# Altium schematic symbol library Inductors.SchLib: 12 symbols
Pins are listed as number, name and electrical type; pins without a type are passive.

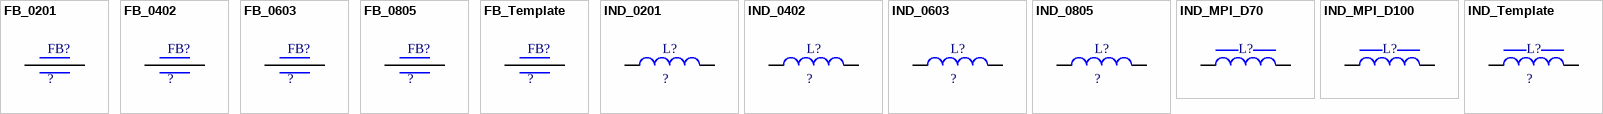
[diagram p0: symbols FB_0201 to IND_Template]

## FB_0201
designator FB?, comment ?
0201 Ferrite Beads ROHS; Value: ?; JLCPCB Part: ?; LCSC Part: ?; Mfr. Part: ?; DC Resistance (DCR) (Max): ?; Current Rating (Max): ?
footprint FB_0201
pins: 1, 2

## FB_0402
designator FB?, comment ?
0402 Ferrite Beads ROHS; Value: ?; JLCPCB Part: ?; LCSC Part: ?; Mfr. Part: ?; DC Resistance (DCR) (Max): ?; Current Rating (Max): ?
footprint FB_0402
pins: 1, 2

## FB_0603
designator FB?, comment ?
0603 Ferrite Beads ROHS; Value: ?; JLCPCB Part: ?; LCSC Part: ?; Mfr. Part: ?; DC Resistance (DCR) (Max): ?; Current Rating (Max): ?
footprint FB_0603
pins: 1, 2

## FB_0805
designator FB?, comment ?
0805 Ferrite Beads ROHS; Value: ?; JLCPCB Part: ?; LCSC Part: ?; Mfr. Part: ?; DC Resistance (DCR) (Max): ?; Current Rating (Max): ?
footprint FB_0805
pins: 1, 2

## FB_Template
designator FB?, comment ?
Where is the description?; Value: ?; JLCPCB Part: ?; LCSC Part: ?; Mfr. Part: ?; DC Resistance (DCR) (Max): ?; Current Rating (Max): ?
pins: 1, 2

## IND_0201
designator L?, comment ?
0201 Inductors ROHS; Value: ?; JLCPCB Part: ?; LCSC Part: ?; Mfr. Part: ?; Current Rating: ?
footprint IND_0201
pins: 1, 2

## IND_0402
designator L?, comment ?
0402 Inductors ROHS; Value: ?; JLCPCB Part: ?; LCSC Part: ?; Mfr. Part: ?; Current Rating: ?
footprint IND_0402
pins: 1, 2

## IND_0603
designator L?, comment ?
0603 Inductors ROHS; Value: ?; JLCPCB Part: ?; LCSC Part: ?; Mfr. Part: ?; Current Rating: ?
footprint IND_0603
pins: 1, 2

## IND_0805
designator L?, comment ?
0805 Inductors ROHS; Value: ?; JLCPCB Part: ?; LCSC Part: ?; Mfr. Part: ?; Current Rating: ?
footprint IND_0805
pins: 1, 2

## IND_MPI_D70
designator L?
Molding Power Inductor (MPI) 6.6x7.3mm; JLCPCB Part: ?; LCSC Part: ?; Value: ?; Mrf . Part: ?; Current Rating: ?
footprint IND_MPI_D70
pins: 1, 2

## IND_MPI_D100
designator L?
Molding Power Inductor (MPI) 1040; JLCPCB Part: ?; LCSC Part: ?; Value: ?; Mrf . Part: ?; Current Rating: ?
footprint IND_MPI_D100
pins: 1, 2

## IND_Template
designator L?, comment ?
Where is the description?; Value: ?; JLCPCB Part: ?; LCSC Part: ?; Mfr. Part: ?; Current Rating: ?
pins: 1, 2